# Altium integrated library Analog Devices Operational Amplifiers.IntLib: 2102 symbols (part 50 of 70)
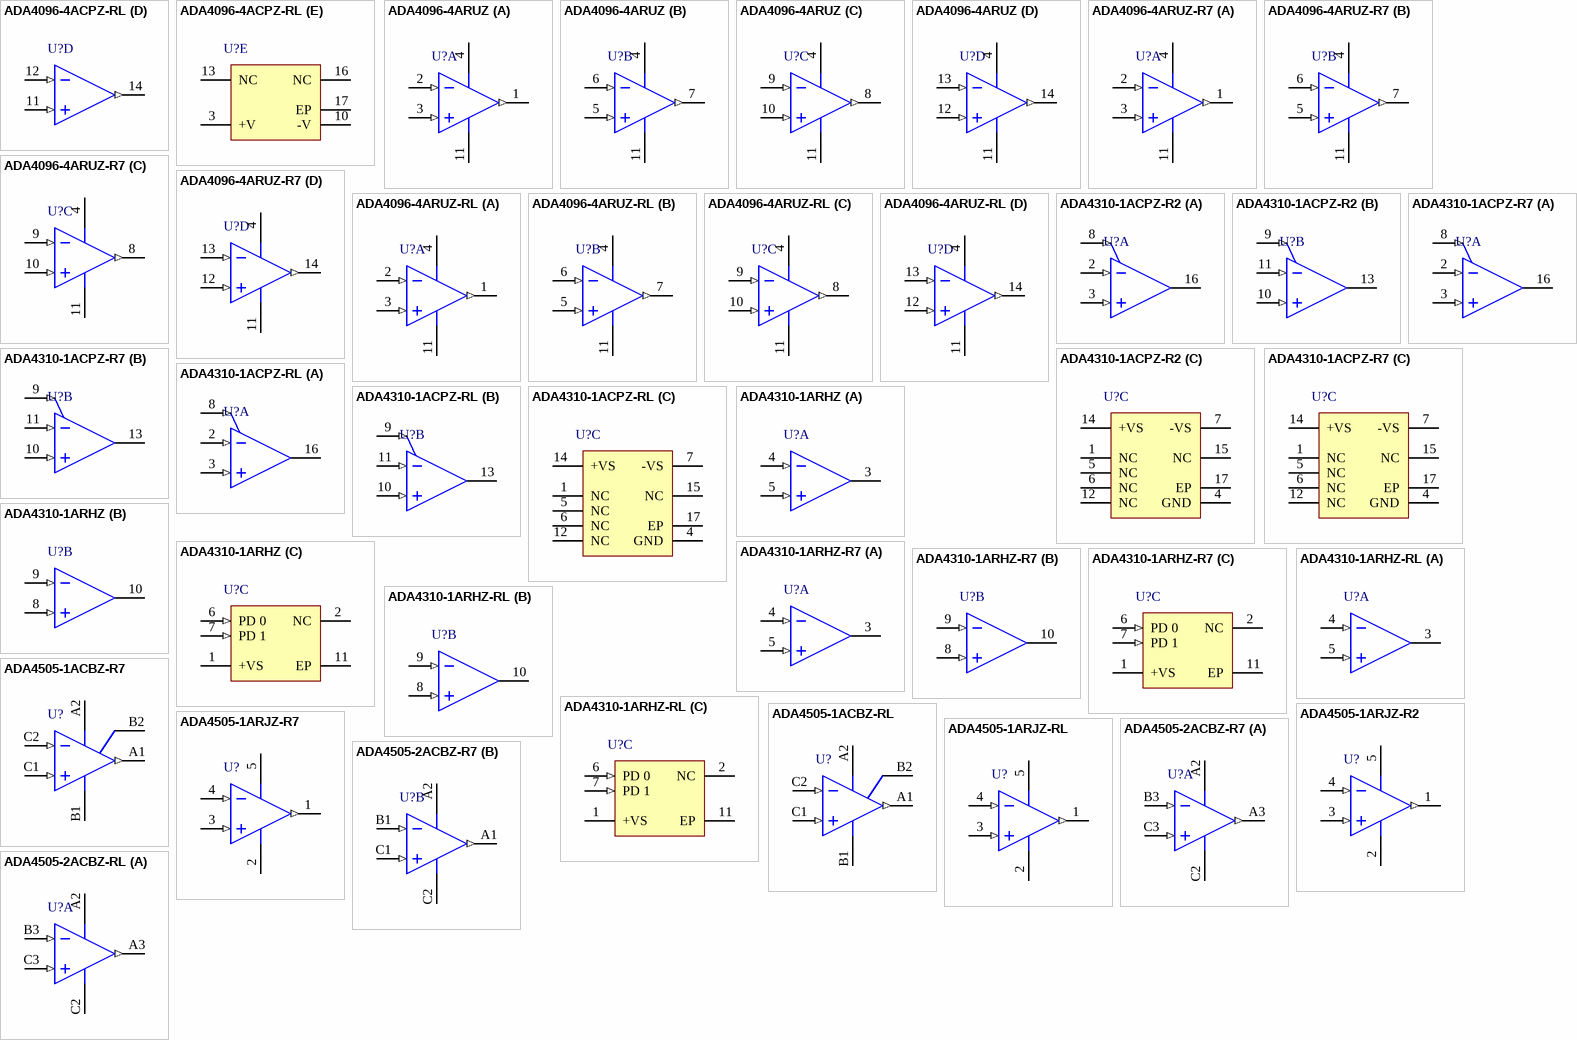
[diagram p163: symbols ADA4096-4ACPZ-RL to ADA4505-2ACBZ-RL]

## ADA4505-1ARJZ-R2
designator U?
Single Channel Rail-to-Rail Operational Amplifier, 50 KHz BW, 6 mV/us SR, Industrial, 5-pin SOT23 (RJ-5), Reel; Generic Part Number: ADA4505-1; Manufacturer: Analog Devices; PartNumber: ADA4505-1ARJZ-R2; Amplifiers Per Package: 1; Input Bias Current: 500fA; Input Offset Voltage: 500uV; Iq/Amp: 9uA; Slew Rate: 6mV/us; Small Signal Bandwidth: 50KHz; V Span Max: 5V; V Span Min: 1.8V; DatasheetVersion: Rev. D; PackageVersion: 121608-A; PackageReference: RJ-5; PackageDescription: 5-Pin Small Outline Transistor Package, Body 2.9 x 1.6 mm, Pitch 0.95 mm; Supplier 1: Digi-Key; Supplier Part Number 1: ADA4505-1ARJZ-R2TR-ND; Supplier 2: Digi-Key; Supplier Part Number 2: ADA4505-1ARJZ-R2CT-ND; Supplier 3: Digi-Key; Supplier Part Number 3: ADA4505-1ARJZ-R2DKR-ND; Supplier 4: Newark; Supplier Part Number 4: 33R2223; Supplier 5: Newark; Supplier Part Number 5: 26R2393; Mounting Technology: Surface Mount; Code_JEDEC: MO-178-AA; ComponentLink1Description: Manufacturer URL; ComponentLink1URL: http://www.analog.com/en/index.html; ComponentLink2Description: Datasheet; ComponentLink2URL: http://www.analog.com/static/imported-files/data_sheets/ADA4505-1_4505-2_4505-4.pdf; ComponentLink3Description: Package Specification; ComponentLink3URL: http://www.analog.com/static/imported-files/packages/PKG_PDF/SOT-23(RJ)/RJ_5.pdf
footprint ADI-RJ-5_N (SOT-23, 5-Leads, Body 2.9x1.6mm, Pitch 0.95mm, IPC Medium Density)
footprint ADI-RJ-5_L (SOT-23, 5-Leads, Body 2.9x1.6mm, Pitch 0.95mm, IPC High Density)
footprint ADI-RJ-5_M (SOT-23, 5-Leads, Body 2.9x1.6mm, Pitch 0.95mm, IPC Low Density)
pins: 1 OUT (out), 2 -V (power), 3 +IN (in), 4 -IN (in), 5 +V (power)

## ADA4505-1ARJZ-R7
designator U?
Single Channel Rail-to-Rail Operational Amplifier, 50 KHz BW, 6 mV/us SR, Industrial, 5-pin SOT23 (RJ-5), Reel; Generic Part Number: ADA4505-1; Manufacturer: Analog Devices; PartNumber: ADA4505-1ARJZ-R7; Amplifiers Per Package: 1; Input Bias Current: 500fA; Input Offset Voltage: 500uV; Iq/Amp: 9uA; Slew Rate: 6mV/us; Small Signal Bandwidth: 50KHz; V Span Max: 5V; V Span Min: 1.8V; DatasheetVersion: Rev. D; PackageVersion: 121608-A; PackageReference: RJ-5; PackageDescription: 5-Pin Small Outline Transistor Package, Body 2.9 x 1.6 mm, Pitch 0.95 mm; Supplier 1: Digi-Key; Supplier Part Number 1: ADA4505-1ARJZ-R7-ND; Supplier 2: Farnell; Supplier Part Number 2: 1827377RL; Supplier 3: Farnell; Supplier Part Number 3: 1827377; Supplier 4: Newark; Supplier Part Number 4: 80R8147; Supplier 5: Newark; Supplier Part Number 5: 26R2394; Mounting Technology: Surface Mount; Code_JEDEC: MO-178-AA; ComponentLink1Description: Manufacturer URL; ComponentLink1URL: http://www.analog.com/en/index.html; ComponentLink2Description: Datasheet; ComponentLink2URL: http://www.analog.com/static/imported-files/data_sheets/ADA4505-1_4505-2_4505-4.pdf; ComponentLink3Description: Package Specification; ComponentLink3URL: http://www.analog.com/static/imported-files/packages/PKG_PDF/SOT-23(RJ)/RJ_5.pdf
footprint ADI-RJ-5_N (SOT-23, 5-Leads, Body 2.9x1.6mm, Pitch 0.95mm, IPC Medium Density)
footprint ADI-RJ-5_L (SOT-23, 5-Leads, Body 2.9x1.6mm, Pitch 0.95mm, IPC High Density)
footprint ADI-RJ-5_M (SOT-23, 5-Leads, Body 2.9x1.6mm, Pitch 0.95mm, IPC Low Density)
pins: 1 OUT (out), 2 -V (power), 3 +IN (in), 4 -IN (in), 5 +V (power)

## ADA4505-1ARJZ-RL
designator U?
Single Channel Rail-to-Rail Operational Amplifier, 50 KHz BW, 6 mV/us SR, Industrial, 5-pin SOT23 (RJ-5), Reel; Generic Part Number: ADA4505-1; Manufacturer: Analog Devices; PartNumber: ADA4505-1ARJZ-RL; Amplifiers Per Package: 1; Input Bias Current: 500fA; Input Offset Voltage: 500uV; Iq/Amp: 9uA; Slew Rate: 6mV/us; Small Signal Bandwidth: 50KHz; V Span Max: 5V; V Span Min: 1.8V; DatasheetVersion: Rev. D; PackageVersion: 121608-A; PackageReference: RJ-5; PackageDescription: 5-Pin Small Outline Transistor Package, Body 2.9 x 1.6 mm, Pitch 0.95 mm; Supplier 1: Digi-Key; Supplier Part Number 1: ADA4505-1ARJZ-RL-ND; Supplier 2: Newark; Supplier Part Number 2: 26R2392; Mounting Technology: Surface Mount; Code_JEDEC: MO-178-AA; ComponentLink1Description: Manufacturer URL; ComponentLink1URL: http://www.analog.com/en/index.html; ComponentLink2Description: Datasheet; ComponentLink2URL: http://www.analog.com/static/imported-files/data_sheets/ADA4505-1_4505-2_4505-4.pdf; ComponentLink3Description: Package Specification; ComponentLink3URL: http://www.analog.com/static/imported-files/packages/PKG_PDF/SOT-23(RJ)/RJ_5.pdf
footprint ADI-RJ-5_N (SOT-23, 5-Leads, Body 2.9x1.6mm, Pitch 0.95mm, IPC Medium Density)
footprint ADI-RJ-5_L (SOT-23, 5-Leads, Body 2.9x1.6mm, Pitch 0.95mm, IPC High Density)
footprint ADI-RJ-5_M (SOT-23, 5-Leads, Body 2.9x1.6mm, Pitch 0.95mm, IPC Low Density)
pins: 1 OUT (out), 2 -V (power), 3 +IN (in), 4 -IN (in), 5 +V (power)

## ADA4505-2ACBZ-R7
designator U?
Double Channel Rail-to-Rail Operational Amplifier, 50 KHz BW, 6 mV/us SR, Industrial, 8-pin BGA (CB-8-2), Reel; Generic Part Number: ADA4505-2; Manufacturer: Analog Devices; PartNumber: ADA4505-2ACBZ-R7; Amplifiers Per Package: 2; Input Bias Current: 500fA; Input Offset Voltage: 500uV; Iq/Amp: 7uA; Slew Rate: 6mV/us; Small Signal Bandwidth: 50KHz; V Span Max: 5V; V Span Min: 1.8V; DatasheetVersion: Rev. D; PackageVersion: 011008-B; PackageReference: CB-8-2; PackageDescription: 8-Ball Wafer Level Chip Scale Package, Body 1.42 x 1.42 mm, Pitch 0.5 mm; Supplier 1: Digi-Key; Supplier Part Number 1: ADA4505-2ACBZ-R7TR-ND; Supplier 2: Digi-Key; Supplier Part Number 2: ADA4505-2ACBZ-R7CT-ND; Supplier 3: Digi-Key; Supplier Part Number 3: ADA4505-2ACBZ-R7DKR-ND; Supplier 4: Newark; Supplier Part Number 4: 19P8168; Mounting Technology: Surface Mount; ComponentLink1Description: Manufacturer URL; ComponentLink1URL: http://www.analog.com/en/index.html; ComponentLink2Description: Datasheet; ComponentLink2URL: http://www.analog.com/static/imported-files/data_sheets/ADA4505-1_4505-2_4505-4.pdf; ComponentLink3Description: Package Specification; ComponentLink3URL: http://www.analog.com/static/imported-files/packages/PKG_PDF/WLCSP(CB)/CB_8_2.pdf; ComponentLink4Description: Reference Circuit; ComponentLink4URL: http://www.analog.com/en/all-operational-amplifiers-op-amps/operational-amplifiers-op-amps/ada4505-2/products/product.html#product-recommendations
footprint ADI-CB-8-2 (BGA, 8-Balls, Body 1.42x1.42mm, Pitch 0.5mm)
pins on every part: A2 +V (power), C2 -V (power)
part A pins: A3 OUT A (out), B3 -IN A (in), C3 +IN A (in)
part B pins: A1 OUT B (out), B1 -IN B (in), C1 +IN B (in)

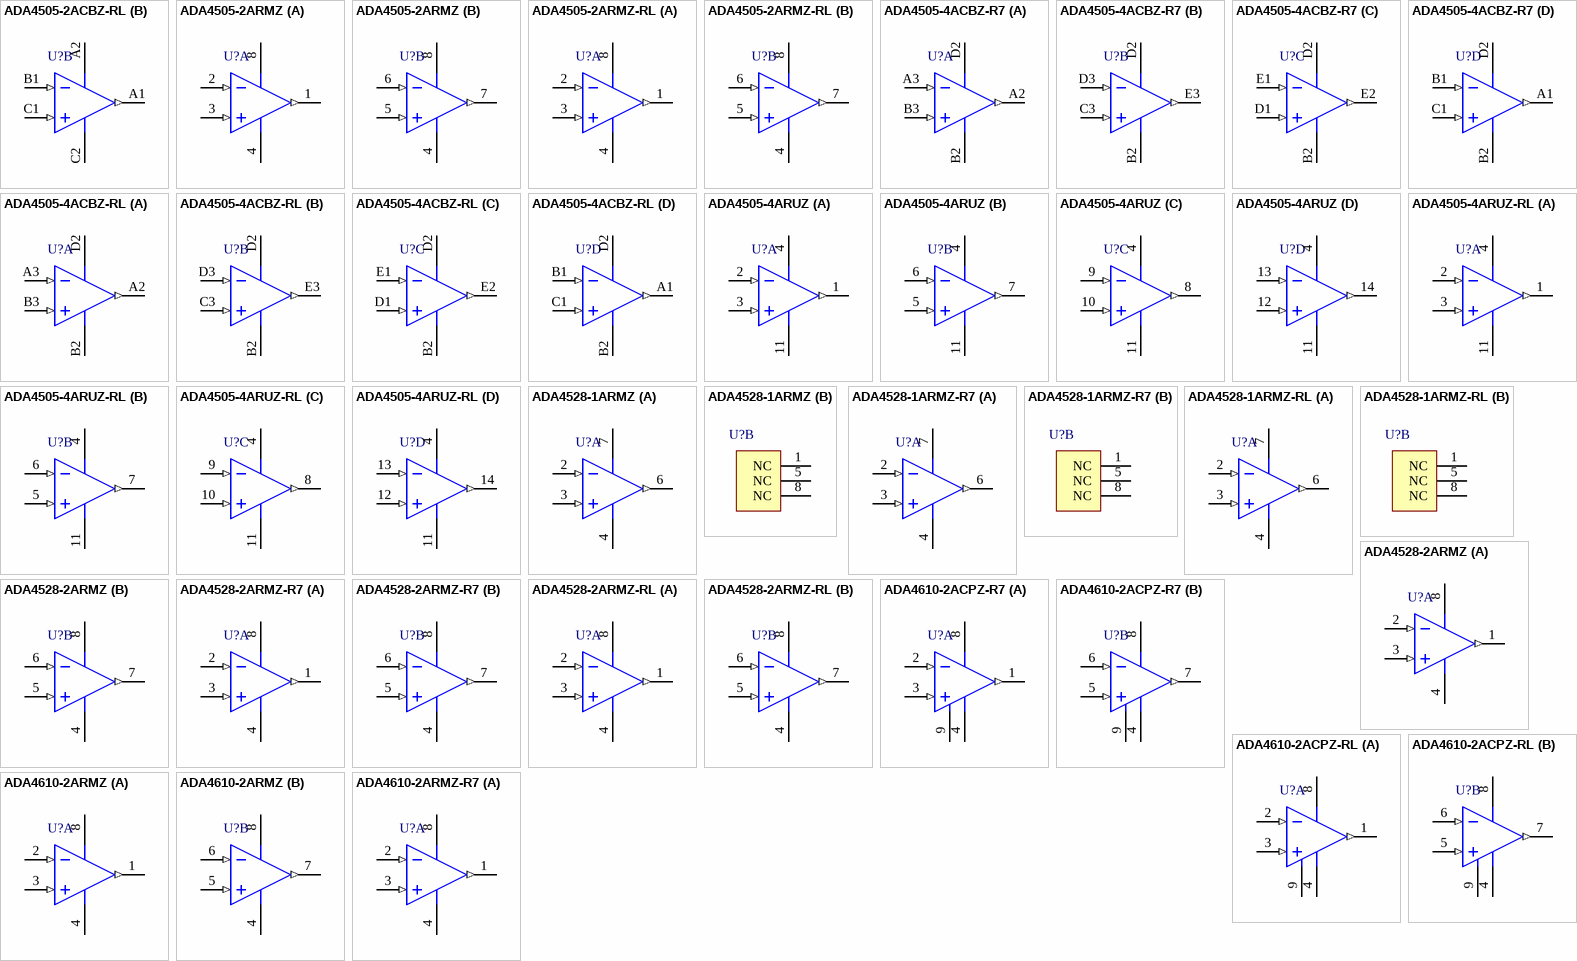
[diagram p79: symbols ADA4505-2ACBZ-RL to ADA4610-2ARMZ-R7]

## ADA4505-2ACBZ-RL
designator U?
Double Channel Rail-to-Rail Operational Amplifier, 50 KHz BW, 6 mV/us SR, Industrial, 8-pin BGA (CB-8-2), Reel; Generic Part Number: ADA4505-2; Manufacturer: Analog Devices; PartNumber: ADA4505-2ACBZ-RL; Amplifiers Per Package: 2; Input Bias Current: 500fA; Input Offset Voltage: 500uV; Iq/Amp: 7uA; Slew Rate: 6mV/us; Small Signal Bandwidth: 50KHz; V Span Max: 5V; V Span Min: 1.8V; DatasheetVersion: Rev. D; PackageVersion: 011008-B; PackageReference: CB-8-2; PackageDescription: 8-Ball Wafer Level Chip Scale Package, Body 1.42 x 1.42 mm, Pitch 0.5 mm; Supplier 1: Digi-Key; Supplier Part Number 1: ADA4505-2ACBZ-RL-ND; Mounting Technology: Surface Mount; ComponentLink1Description: Manufacturer URL; ComponentLink1URL: http://www.analog.com/en/index.html; ComponentLink2Description: Datasheet; ComponentLink2URL: http://www.analog.com/static/imported-files/data_sheets/ADA4505-1_4505-2_4505-4.pdf; ComponentLink3Description: Package Specification; ComponentLink3URL: http://www.analog.com/static/imported-files/packages/PKG_PDF/WLCSP(CB)/CB_8_2.pdf; ComponentLink4Description: Reference Circuit; ComponentLink4URL: http://www.analog.com/en/all-operational-amplifiers-op-amps/operational-amplifiers-op-amps/ada4505-2/products/product.html#product-recommendations
footprint ADI-CB-8-2 (BGA, 8-Balls, Body 1.42x1.42mm, Pitch 0.5mm)
pins on every part: A2 +V (power), C2 -V (power)
part A pins: A3 OUT A (out), B3 -IN A (in), C3 +IN A (in)
part B pins: A1 OUT B (out), B1 -IN B (in), C1 +IN B (in)

## ADA4505-2ARMZ
designator U?
Double Channel Rail-to-Rail Operational Amplifier, 50 KHz BW, 6 mV/us SR, Industrial, 8-pin SOP (RM-8), Tube; Generic Part Number: ADA4505-2; Manufacturer: Analog Devices; PartNumber: ADA4505-2ARMZ; Amplifiers Per Package: 2; Input Bias Current: 500fA; Input Offset Voltage: 500uV; Iq/Amp: 7uA; Slew Rate: 6mV/us; Small Signal Bandwidth: 50KHz; V Span Max: 5V; V Span Min: 1.8V; DatasheetVersion: Rev. D; PackageReference: RM-8; PackageDescription: 8-Pin Mini Small Outline Package, Body 3 x 3 mm, Pitch 0.65 mm; Supplier 1: Digi-Key; Supplier Part Number 1: ADA4505-2ARMZ-ND; Supplier 2: Newark; Supplier Part Number 2: 19P8169; Mounting Technology: Surface Mount; Code_JEDEC: MO-187-AA; ComponentLink1Description: Manufacturer URL; ComponentLink1URL: http://www.analog.com/en/index.html; ComponentLink2Description: Datasheet; ComponentLink2URL: http://www.analog.com/static/imported-files/data_sheets/ADA4505-1_4505-2_4505-4.pdf; ComponentLink3Description: Package Specification; ComponentLink3URL: http://www.analog.com/static/imported-files/packages/PKG_PDF/MSOP%28RM%29/RM_8.pdf; ComponentLink4Description: Reference Circuit; ComponentLink4URL: http://www.analog.com/en/all-operational-amplifiers-op-amps/operational-amplifiers-op-amps/ada4505-2/products/product.html#product-recommendations
footprint ADI-RM-8_N (SOP, 8-Leads, Body 3x3mm, Pitch 0.65mm, IPC Medium Density)
footprint ADI-RM-8_L (SOP, 8-Leads, Body 3x3mm, Pitch 0.65mm, IPC High Density)
footprint ADI-RM-8_M (SOP, 8-Leads, Body 3x3mm, Pitch 0.65mm, IPC Low Density)
pins on every part: 4 -V (power), 8 +V (power)
part A pins: 1 OUT A (out), 2 -IN A (in), 3 +IN A (in)
part B pins: 5 +IN B (in), 6 -IN B (in), 7 OUT B (out)

## ADA4505-2ARMZ-RL
designator U?
Double Channel Rail-to-Rail Operational Amplifier, 50 KHz BW, 6 mV/us SR, Industrial, 8-pin SOP (RM-8), Reel; Generic Part Number: ADA4505-2; Manufacturer: Analog Devices; PartNumber: ADA4505-2ARMZ-RL; Amplifiers Per Package: 2; Input Bias Current: 500fA; Input Offset Voltage: 500uV; Iq/Amp: 7uA; Slew Rate: 6mV/us; Small Signal Bandwidth: 50KHz; V Span Max: 5V; V Span Min: 1.8V; DatasheetVersion: Rev. D; PackageReference: RM-8; PackageDescription: 8-Pin Mini Small Outline Package, Body 3 x 3 mm, Pitch 0.65 mm; Supplier 1: Digi-Key; Supplier Part Number 1: ADA4505-2ARMZ-RLTR-ND; Supplier 2: Digi-Key; Supplier Part Number 2: ADA4505-2ARMZ-RLCT-ND; Supplier 3: Digi-Key; Supplier Part Number 3: ADA4505-2ARMZ-RLDKR-ND; Supplier 4: Newark; Supplier Part Number 4: 07P8862; Mounting Technology: Surface Mount; Code_JEDEC: MO-187-AA; ComponentLink1Description: Manufacturer URL; ComponentLink1URL: http://www.analog.com/en/index.html; ComponentLink2Description: Datasheet; ComponentLink2URL: http://www.analog.com/static/imported-files/data_sheets/ADA4505-1_4505-2_4505-4.pdf; ComponentLink3Description: Package Specification; ComponentLink3URL: http://www.analog.com/static/imported-files/packages/PKG_PDF/MSOP%28RM%29/RM_8.pdf; ComponentLink4Description: Reference Circuit; ComponentLink4URL: http://www.analog.com/en/all-operational-amplifiers-op-amps/operational-amplifiers-op-amps/ada4505-2/products/product.html#product-recommendations
footprint ADI-RM-8_N (SOP, 8-Leads, Body 3x3mm, Pitch 0.65mm, IPC Medium Density)
footprint ADI-RM-8_L (SOP, 8-Leads, Body 3x3mm, Pitch 0.65mm, IPC High Density)
footprint ADI-RM-8_M (SOP, 8-Leads, Body 3x3mm, Pitch 0.65mm, IPC Low Density)
pins on every part: 4 -V (power), 8 +V (power)
part A pins: 1 OUT A (out), 2 -IN A (in), 3 +IN A (in)
part B pins: 5 +IN B (in), 6 -IN B (in), 7 OUT B (out)

## ADA4505-4ACBZ-R7
designator U?
Quad Channel Rail-to-Rail Operational Amplifier, 50 KHz BW, 6 mV/us SR, Industrial, 14-pin BGA (CB-14-1), Reel; Generic Part Number: ADA4505-4; Manufacturer: Analog Devices; PartNumber: ADA4505-4ACBZ-R7; Amplifiers Per Package: 4; Input Bias Current: 500fA; Input Offset Voltage: 500uV; Iq/Amp: 7uA; Slew Rate: 6mV/us; Small Signal Bandwidth: 50KHz; V Span Max: 5V; V Span Min: 1.8V; DatasheetVersion: Rev. D; PackageVersion: 061208-A; PackageReference: CB-14-1; PackageDescription: 14-Ball Wafer Level Chip Scale Package, Body 2.96 x 1.46 mm, Pitch 0.5 mm; Supplier 1: Digi-Key; Supplier Part Number 1: ADA4505-4ACBZ-R7TR-ND; Supplier 2: Digi-Key; Supplier Part Number 2: ADA4505-4ACBZ-R7CT-ND; Supplier 3: Digi-Key; Supplier Part Number 3: ADA4505-4ACBZ-R7DKR-ND; Mounting Technology: Surface Mount; ComponentLink1Description: Manufacturer URL; ComponentLink1URL: http://www.analog.com/en/index.html; ComponentLink2Description: Datasheet; ComponentLink2URL: http://www.analog.com/static/imported-files/data_sheets/ADA4505-1_4505-2_4505-4.pdf; ComponentLink3Description: Package Specification; ComponentLink3URL: http://www.analog.com/static/imported-files/packages/PKG_PDF/WLCSP(CB)/CB_14_1.pdf
footprint ADI-CB-14-1 (BGA, 14-Balls, Body 2.96x1.46mm, Pitch 0.5mm)
pins on every part: B2 -V (power), D2 +V (power)
part A pins: A2 OUT A (out), A3 -IN A (in), B3 +IN A (in)
part B pins: C3 +IN B (in), D3 -IN B (in), E3 OUT B (out)
part C pins: D1 +IN C (in), E1 -IN C (in), E2 OUT C (out)
part D pins: A1 OUT D (out), B1 -IN D (in), C1 +IN D (in)

## ADA4505-4ACBZ-RL
designator U?
Quad Channel Rail-to-Rail Operational Amplifier, 50 KHz BW, 6 mV/us SR, Industrial, 14-pin BGA (CB-14-1), Reel; Generic Part Number: ADA4505-4; Manufacturer: Analog Devices; PartNumber: ADA4505-4ACBZ-RL; Amplifiers Per Package: 4; Input Bias Current: 500fA; Input Offset Voltage: 500uV; Iq/Amp: 7uA; Slew Rate: 6mV/us; Small Signal Bandwidth: 50KHz; V Span Max: 5V; V Span Min: 1.8V; DatasheetVersion: Rev. D; PackageVersion: 061208-A; PackageReference: CB-14-1; PackageDescription: 14-Ball Wafer Level Chip Scale Package, Body 2.96 x 1.46 mm, Pitch 0.5 mm; Supplier 1: Digi-Key; Supplier Part Number 1: ADA4505-4ACBZ-RL-ND; Mounting Technology: Surface Mount; ComponentLink1Description: Manufacturer URL; ComponentLink1URL: http://www.analog.com/en/index.html; ComponentLink2Description: Datasheet; ComponentLink2URL: http://www.analog.com/static/imported-files/data_sheets/ADA4505-1_4505-2_4505-4.pdf; ComponentLink3Description: Package Specification; ComponentLink3URL: http://www.analog.com/static/imported-files/packages/PKG_PDF/WLCSP(CB)/CB_14_1.pdf
footprint ADI-CB-14-1 (BGA, 14-Balls, Body 2.96x1.46mm, Pitch 0.5mm)
pins on every part: B2 -V (power), D2 +V (power)
part A pins: A2 OUT A (out), A3 -IN A (in), B3 +IN A (in)
part B pins: C3 +IN B (in), D3 -IN B (in), E3 OUT B (out)
part C pins: D1 +IN C (in), E1 -IN C (in), E2 OUT C (out)
part D pins: A1 OUT D (out), B1 -IN D (in), C1 +IN D (in)

## ADA4505-4ARUZ
designator U?
Quad Channel Rail-to-Rail Operational Amplifier, 50 KHz BW, 6 mV/us SR, Industrial, 14-pin SOP (RU-14), Tube; Generic Part Number: ADA4505-4; Manufacturer: Analog Devices; PartNumber: ADA4505-4ARUZ; Amplifiers Per Package: 4; Input Bias Current: 500fA; Input Offset Voltage: 500uV; Iq/Amp: 7uA; Slew Rate: 6mV/us; Small Signal Bandwidth: 50KHz; V Span Max: 5V; V Span Min: 1.8V; DatasheetVersion: Rev. D; PackageReference: RU-14; PackageDescription: 14-Pin Thin Shrink Small Outline Package, Body 5 x 4.4 mm, Pitch 0.65 mm; Supplier 1: Digi-Key; Supplier Part Number 1: ADA4505-4ARUZ-ND; Supplier 2: Newark; Supplier Part Number 2: 19P8170; Mounting Technology: Surface Mount; Code_JEDEC: MO-153AB-1; ComponentLink1Description: Manufacturer URL; ComponentLink1URL: http://www.analog.com/en/index.html; ComponentLink2Description: Datasheet; ComponentLink2URL: http://www.analog.com/static/imported-files/data_sheets/ADA4505-1_4505-2_4505-4.pdf; ComponentLink3Description: Package Specification; ComponentLink3URL: http://www.analog.com/static/imported-files/packages/36057385283879153717235186773RU14.pdf
footprint ADI-RU-14_N (SOP, 14-Leads, Body 5x4.4mm, Pitch 0.65mm, IPC Medium Density)
footprint ADI-RU-14_L (SOP, 14-Leads, Body 5x4.4mm, Pitch 0.65mm, IPC High Density)
footprint ADI-RU-14_M (SOP, 14-Leads, Body 5x4.4mm, Pitch 0.65mm, IPC Low Density)
pins on every part: 4 +V (power), 11 -V (power)
part A pins: 1 OUT A (out), 2 -IN A (in), 3 +IN A (in)
part B pins: 5 +IN B (in), 6 -IN B (in), 7 OUT B (out)
part C pins: 8 OUT C (out), 9 -IN C (in), 10 +IN C (in)
part D pins: 12 +IN D (in), 13 -IN D (in), 14 OUT D (out)

## ADA4505-4ARUZ-RL
designator U?
Quad Channel Rail-to-Rail Operational Amplifier, 50 KHz BW, 6 mV/us SR, Industrial, 14-pin SOP (RU-14), Reel; Generic Part Number: ADA4505-4; Manufacturer: Analog Devices; PartNumber: ADA4505-4ARUZ-RL; Amplifiers Per Package: 4; Input Bias Current: 500fA; Input Offset Voltage: 500uV; Iq/Amp: 7uA; Slew Rate: 6mV/us; Small Signal Bandwidth: 50KHz; V Span Max: 5V; V Span Min: 1.8V; DatasheetVersion: Rev. D; PackageReference: RU-14; PackageDescription: 14-Pin Thin Shrink Small Outline Package, Body 5 x 4.4 mm, Pitch 0.65 mm; Supplier 1: Digi-Key; Supplier Part Number 1: ADA4505-4ARUZ-RL-ND; Mounting Technology: Surface Mount; Code_JEDEC: MO-153AB-1; ComponentLink1Description: Manufacturer URL; ComponentLink1URL: http://www.analog.com/en/index.html; ComponentLink2Description: Datasheet; ComponentLink2URL: http://www.analog.com/static/imported-files/data_sheets/ADA4505-1_4505-2_4505-4.pdf; ComponentLink3Description: Package Specification; ComponentLink3URL: http://www.analog.com/static/imported-files/packages/36057385283879153717235186773RU14.pdf
footprint ADI-RU-14_N (SOP, 14-Leads, Body 5x4.4mm, Pitch 0.65mm, IPC Medium Density)
footprint ADI-RU-14_L (SOP, 14-Leads, Body 5x4.4mm, Pitch 0.65mm, IPC High Density)
footprint ADI-RU-14_M (SOP, 14-Leads, Body 5x4.4mm, Pitch 0.65mm, IPC Low Density)
pins on every part: 4 +V (power), 11 -V (power)
part A pins: 1 OUT A (out), 2 -IN A (in), 3 +IN A (in)
part B pins: 5 +IN B (in), 6 -IN B (in), 7 OUT B (out)
part C pins: 8 OUT C (out), 9 -IN C (in), 10 +IN C (in)
part D pins: 12 +IN D (in), 13 -IN D (in), 14 OUT D (out)

## ADA4528-1ARMZ
designator U?
Single Channel RRIO Operational Amplifier, 6.5 MHz BW, 500 mV/us SR, Industrial, 8-pin SOP (RM-8), Tube; Generic Part Number: ADA4528-1; Manufacturer: Analog Devices; PartNumber: ADA4528-1ARMZ; Amplifiers Per Package: 1; Input Bias Current: 90pA; Input Offset Voltage: 300nV; Iq/Amp: 1.4mA; Small Signal Bandwidth: 6.5MHz; V Span Max: 5.5V; V Span Min: 2.2V; DatasheetVersion: Rev. C; PackageReference: RM-8; PackageDescription: 8-Pin Mini Small Outline Package, Body 3 x 3 mm, Pitch 0.65 mm; Supplier 1: Digi-Key; Supplier Part Number 1: ADA4528-1ARMZ-ND; Supplier 2: Farnell; Supplier Part Number 2: 1897114; Supplier 3: Farnell; Supplier Part Number 3: 2119010; Supplier 4: Newark; Supplier Part Number 4: 31T9234; Packing: Tube; Slew Rate: 500mV/us; Mounting Technology: Surface Mount; Code_JEDEC: MO-187-AA; ComponentLink1Description: Manufacturer URL; ComponentLink1URL: http://www.analog.com/en/index.html; ComponentLink2Description: Datasheet; ComponentLink2URL: http://www.analog.com/static/imported-files/data_sheets/ADA4528-1_4528-2.pdf; ComponentLink3Description: Package Specification; ComponentLink3URL: http://www.analog.com/static/imported-files/packages/PKG_PDF/MSOP%28RM%29/RM_8.pdf; ComponentLink4Description: Reference Circuit; ComponentLink4URL: http://search.analog.com/search/ProductSearch.aspx?query=ada4528-1&amp;locale=en#product-recommendations
footprint ADI-RM-8_N (SOP, 8-Leads, Body 3x3mm, Pitch 0.65mm, IPC Medium Density)
footprint ADI-RM-8_L (SOP, 8-Leads, Body 3x3mm, Pitch 0.65mm, IPC High Density)
footprint ADI-RM-8_M (SOP, 8-Leads, Body 3x3mm, Pitch 0.65mm, IPC Low Density)
part A pins: 2 -IN (in), 3 +IN (in), 4 -V (power), 6 OUT (out), 7 +V (power)
part B pins: 1 NC, 5 NC, 8 NC

## ADA4528-1ARMZ-R7
designator U?
Single Channel RRIO Operational Amplifier, 6.5 MHz BW, 500 mV/us SR, Industrial, 8-pin SOP (RM-8), Reel; Generic Part Number: ADA4528-1; Manufacturer: Analog Devices; PartNumber: ADA4528-1ARMZ-R7; Amplifiers Per Package: 1; Input Bias Current: 90pA; Input Offset Voltage: 300nV; Iq/Amp: 1.4mA; Small Signal Bandwidth: 6.5MHz; V Span Max: 5.5V; V Span Min: 2.2V; DatasheetVersion: Rev. C; PackageReference: RM-8; PackageDescription: 8-Pin Mini Small Outline Package, Body 3 x 3 mm, Pitch 0.65 mm; Supplier 1: Digi-Key; Supplier Part Number 1: ADA4528-1ARMZ-R7TR-ND; Supplier 2: Digi-Key; Supplier Part Number 2: ADA4528-1ARMZ-R7CT-ND; Supplier 3: Digi-Key; Supplier Part Number 3: ADA4528-1ARMZ-R7DKR-ND; Packing: Reel; Slew Rate: 500mV/us; Mounting Technology: Surface Mount; Code_JEDEC: MO-187-AA; ComponentLink1Description: Manufacturer URL; ComponentLink1URL: http://www.analog.com/en/index.html; ComponentLink2Description: Datasheet; ComponentLink2URL: http://www.analog.com/static/imported-files/data_sheets/ADA4528-1_4528-2.pdf; ComponentLink3Description: Package Specification; ComponentLink3URL: http://www.analog.com/static/imported-files/packages/PKG_PDF/MSOP%28RM%29/RM_8.pdf; ComponentLink4Description: Reference Circuit; ComponentLink4URL: http://search.analog.com/search/ProductSearch.aspx?query=ada4528-1&amp;locale=en#product-recommendations
footprint ADI-RM-8_N (SOP, 8-Leads, Body 3x3mm, Pitch 0.65mm, IPC Medium Density)
footprint ADI-RM-8_L (SOP, 8-Leads, Body 3x3mm, Pitch 0.65mm, IPC High Density)
footprint ADI-RM-8_M (SOP, 8-Leads, Body 3x3mm, Pitch 0.65mm, IPC Low Density)
part A pins: 2 -IN (in), 3 +IN (in), 4 -V (power), 6 OUT (out), 7 +V (power)
part B pins: 1 NC, 5 NC, 8 NC

## ADA4528-1ARMZ-RL
designator U?
Single Channel RRIO Operational Amplifier, 6.5 MHz BW, 500 mV/us SR, Industrial, 8-pin SOP (RM-8), Reel; Generic Part Number: ADA4528-1; Manufacturer: Analog Devices; PartNumber: ADA4528-1ARMZ-RL; Amplifiers Per Package: 1; Input Bias Current: 90pA; Input Offset Voltage: 300nV; Iq/Amp: 1.4mA; Small Signal Bandwidth: 6.5MHz; V Span Max: 5.5V; V Span Min: 2.2V; DatasheetVersion: Rev. C; PackageReference: RM-8; PackageDescription: 8-Pin Mini Small Outline Package, Body 3 x 3 mm, Pitch 0.65 mm; Supplier 1: Digi-Key; Supplier Part Number 1: ADA4528-1ARMZ-RL-ND; Supplier 2: Newark; Supplier Part Number 2: 31T9235; Packing: Reel; Slew Rate: 500mV/us; Mounting Technology: Surface Mount; Code_JEDEC: MO-187-AA; ComponentLink1Description: Manufacturer URL; ComponentLink1URL: http://www.analog.com/en/index.html; ComponentLink2Description: Datasheet; ComponentLink2URL: http://www.analog.com/static/imported-files/data_sheets/ADA4528-1_4528-2.pdf; ComponentLink3Description: Package Specification; ComponentLink3URL: http://www.analog.com/static/imported-files/packages/PKG_PDF/MSOP%28RM%29/RM_8.pdf; ComponentLink4Description: Reference Circuit; ComponentLink4URL: http://search.analog.com/search/ProductSearch.aspx?query=ada4528-1&amp;locale=en#product-recommendations
footprint ADI-RM-8_N (SOP, 8-Leads, Body 3x3mm, Pitch 0.65mm, IPC Medium Density)
footprint ADI-RM-8_L (SOP, 8-Leads, Body 3x3mm, Pitch 0.65mm, IPC High Density)
footprint ADI-RM-8_M (SOP, 8-Leads, Body 3x3mm, Pitch 0.65mm, IPC Low Density)
part A pins: 2 -IN (in), 3 +IN (in), 4 -V (power), 6 OUT (out), 7 +V (power)
part B pins: 1 NC, 5 NC, 8 NC

## ADA4528-2ARMZ
designator U?
Double Channel RRIO Operational Amplifier, 3.4 MHz BW, 500 mV/us SR, Industrial, 8-pin SOP (RM-8), Tube; Generic Part Number: ADA4528-2; Manufacturer: Analog Devices; PartNumber: ADA4528-2ARMZ; Amplifiers Per Package: 2; Input Bias Current: 125pA; Input Offset Voltage: 300nV; Iq/Amp: 1.5mA; Small Signal Bandwidth: 3.4MHz; V Span Max: 5.5V; V Span Min: 2.2V; DatasheetVersion: Rev. C; PackageReference: RM-8; PackageDescription: 8-Pin Mini Small Outline Package, Body 3 x 3 mm, Pitch 0.65 mm; Supplier 1: Digi-Key; Supplier Part Number 1: ADA4528-2ARMZ-ND; Supplier 2: Farnell; Supplier Part Number 2: 2213573; Supplier 3: Newark; Supplier Part Number 3: 43W5460; Supplier 4: Newark; Supplier Part Number 4: 45W6180; Packing: Tube; Slew Rate: 500mV/us; Mounting Technology: Surface Mount; Code_JEDEC: MO-187-AA; ComponentLink1Description: Manufacturer URL; ComponentLink1URL: http://www.analog.com/en/index.html; ComponentLink2Description: Datasheet; ComponentLink2URL: http://www.analog.com/static/imported-files/data_sheets/ADA4528-1_4528-2.pdf; ComponentLink3Description: Package Specification; ComponentLink3URL: http://www.analog.com/static/imported-files/packages/PKG_PDF/MSOP%28RM%29/RM_8.pdf
footprint ADI-RM-8_N (SOP, 8-Leads, Body 3x3mm, Pitch 0.65mm, IPC Medium Density)
footprint ADI-RM-8_L (SOP, 8-Leads, Body 3x3mm, Pitch 0.65mm, IPC High Density)
footprint ADI-RM-8_M (SOP, 8-Leads, Body 3x3mm, Pitch 0.65mm, IPC Low Density)
pins on every part: 4 -V (power), 8 +V (power)
part A pins: 1 OUT A (out), 2 -IN A (in), 3 +IN A (in)
part B pins: 5 +IN B (in), 6 -IN B (in), 7 OUT B (out)

## ADA4528-2ARMZ-R7
designator U?
Double Channel RRIO Operational Amplifier, 3.4 MHz BW, 500 mV/us SR, Industrial, 8-pin SOP (RM-8), Reel; Generic Part Number: ADA4528-2; Manufacturer: Analog Devices; PartNumber: ADA4528-2ARMZ-R7; Amplifiers Per Package: 2; Input Bias Current: 125pA; Input Offset Voltage: 300nV; Iq/Amp: 1.5mA; Small Signal Bandwidth: 3.4MHz; V Span Max: 5.5V; V Span Min: 2.2V; DatasheetVersion: Rev. C; PackageReference: RM-8; PackageDescription: 8-Pin Mini Small Outline Package, Body 3 x 3 mm, Pitch 0.65 mm; Supplier 1: Digi-Key; Supplier Part Number 1: ADA4528-2ARMZ-R7TR-ND; Supplier 2: Digi-Key; Supplier Part Number 2: ADA4528-2ARMZ-R7CT-ND; Supplier 3: Digi-Key; Supplier Part Number 3: ADA4528-2ARMZ-R7DKR-ND; Supplier 4: Newark; Supplier Part Number 4: 43W5462; Packing: Reel; Slew Rate: 500mV/us; Mounting Technology: Surface Mount; Code_JEDEC: MO-187-AA; ComponentLink1Description: Manufacturer URL; ComponentLink1URL: http://www.analog.com/en/index.html; ComponentLink2Description: Datasheet; ComponentLink2URL: http://www.analog.com/static/imported-files/data_sheets/ADA4528-1_4528-2.pdf; ComponentLink3Description: Package Specification; ComponentLink3URL: http://www.analog.com/static/imported-files/packages/PKG_PDF/MSOP%28RM%29/RM_8.pdf
footprint ADI-RM-8_N (SOP, 8-Leads, Body 3x3mm, Pitch 0.65mm, IPC Medium Density)
footprint ADI-RM-8_L (SOP, 8-Leads, Body 3x3mm, Pitch 0.65mm, IPC High Density)
footprint ADI-RM-8_M (SOP, 8-Leads, Body 3x3mm, Pitch 0.65mm, IPC Low Density)
pins on every part: 4 -V (power), 8 +V (power)
part A pins: 1 OUT A (out), 2 -IN A (in), 3 +IN A (in)
part B pins: 5 +IN B (in), 6 -IN B (in), 7 OUT B (out)

## ADA4528-2ARMZ-RL
designator U?
Double Channel RRIO Operational Amplifier, 3.4 MHz BW, 500 mV/us SR, Industrial, 8-pin SOP (RM-8), Reel; Generic Part Number: ADA4528-2; Manufacturer: Analog Devices; PartNumber: ADA4528-2ARMZ-RL; Amplifiers Per Package: 2; Input Bias Current: 125pA; Input Offset Voltage: 300nV; Iq/Amp: 1.5mA; Small Signal Bandwidth: 3.4MHz; V Span Max: 5.5V; V Span Min: 2.2V; DatasheetVersion: Rev. C; PackageReference: RM-8; PackageDescription: 8-Pin Mini Small Outline Package, Body 3 x 3 mm, Pitch 0.65 mm; Supplier 1: Digi-Key; Supplier Part Number 1: ADA4528-2ARMZ-RL-ND; Supplier 2: Newark; Supplier Part Number 2: 43W5461; Packing: Reel; Slew Rate: 500mV/us; Mounting Technology: Surface Mount; Code_JEDEC: MO-187-AA; ComponentLink1Description: Manufacturer URL; ComponentLink1URL: http://www.analog.com/en/index.html; ComponentLink2Description: Datasheet; ComponentLink2URL: http://www.analog.com/static/imported-files/data_sheets/ADA4528-1_4528-2.pdf; ComponentLink3Description: Package Specification; ComponentLink3URL: http://www.analog.com/static/imported-files/packages/PKG_PDF/MSOP%28RM%29/RM_8.pdf
footprint ADI-RM-8_N (SOP, 8-Leads, Body 3x3mm, Pitch 0.65mm, IPC Medium Density)
footprint ADI-RM-8_L (SOP, 8-Leads, Body 3x3mm, Pitch 0.65mm, IPC High Density)
footprint ADI-RM-8_M (SOP, 8-Leads, Body 3x3mm, Pitch 0.65mm, IPC Low Density)
pins on every part: 4 -V (power), 8 +V (power)
part A pins: 1 OUT A (out), 2 -IN A (in), 3 +IN A (in)
part B pins: 5 +IN B (in), 6 -IN B (in), 7 OUT B (out)

## ADA4610-2ACPZ-R7
designator U?
Double Channel Low Offset Voltage Drift Operational Amplifier, 10.6 MHz BW, 25 V/us SR, Industrial, 8-pin QFN (CP-8-9), Reel; Generic Part Number: ADA4610-2; Manufacturer: Analog Devices; PartNumber: ADA4610-2ACPZ-R7; Amplifiers Per Package: 2; Input Bias Current: 5pA; Input Offset Voltage: 400uV; Iq/Amp: 1.6mA; Slew Rate: 25V/us; V Span Max: 30V; V Span Min: 9V; DatasheetVersion: Rev. B; PackageVersion: 051909-A; PackageReference: CP-8-9; PackageDescription: 8-Pin Lead Frame Chip Scale Package, Body 3 x 3 mm, Pitch 0.5 mm; Supplier 1: Digi-Key; Supplier Part Number 1: ADA4610-2ACPZ-R7-ND; Supplier 2: Newark; Supplier Part Number 2: 86T6045; Packing: Reel; Small Signal Bandwidth: 10.6MHz; Mounting Technology: Surface Mount; ComponentLink1Description: Manufacturer URL; ComponentLink1URL: http://www.analog.com/en/index.html; ComponentLink2Description: Datasheet; ComponentLink2URL: http://www.analog.com/static/imported-files/data_sheets/ADA4610-2.pdf; ComponentLink3Description: Package Specification; ComponentLink3URL: http://www.analog.com/static/imported-files/packages/PKG_PDF/LFCSP(CP)/CP_8_9.pdf
footprint ADI-CP-8-9_N (QFN, 8-Leads, Body 3x3mm, Pitch 0.5mm, Thermal Pad 1.5x2.13mm, IPC Medium Density)
footprint ADI-CP-8-9_L (QFN, 8-Leads, Body 3x3mm, Pitch 0.5mm, Thermal Pad 1.5x2.13mm, IPC High Density)
footprint ADI-CP-8-9_M (QFN, 8-Leads, Body 3x3mm, Pitch 0.5mm, Thermal Pad 1.5x2.13mm, IPC Low Density)
pins on every part: 4 -V (power), 8 +V (power), 9 EP (power)
part A pins: 1 OUT A (out), 2 -IN A (in), 3 +IN A (in)
part B pins: 5 +IN B (in), 6 -IN B (in), 7 OUT B (out)

## ADA4610-2ACPZ-RL
designator U?
Double Channel Low Offset Voltage Drift Operational Amplifier, 10.6 MHz BW, 25 V/us SR, Industrial, 8-pin QFN (CP-8-9), Reel; Generic Part Number: ADA4610-2; Manufacturer: Analog Devices; PartNumber: ADA4610-2ACPZ-RL; Amplifiers Per Package: 2; Input Bias Current: 5pA; Input Offset Voltage: 400uV; Iq/Amp: 1.6mA; Slew Rate: 25V/us; V Span Max: 30V; V Span Min: 9V; DatasheetVersion: Rev. B; PackageVersion: 051909-A; PackageReference: CP-8-9; PackageDescription: 8-Pin Lead Frame Chip Scale Package, Body 3 x 3 mm, Pitch 0.5 mm; Supplier 1: Digi-Key; Supplier Part Number 1: ADA4610-2ACPZ-RL-ND; Supplier 2: Farnell; Supplier Part Number 2: 2102380; Supplier 3: Newark; Supplier Part Number 3: 86T6044; Supplier 4: Newark; Supplier Part Number 4: 92T3177; Packing: Reel; Small Signal Bandwidth: 10.6MHz; Mounting Technology: Surface Mount; ComponentLink1Description: Manufacturer URL; ComponentLink1URL: http://www.analog.com/en/index.html; ComponentLink2Description: Datasheet; ComponentLink2URL: http://www.analog.com/static/imported-files/data_sheets/ADA4610-2.pdf; ComponentLink3Description: Package Specification; ComponentLink3URL: http://www.analog.com/static/imported-files/packages/PKG_PDF/LFCSP(CP)/CP_8_9.pdf
footprint ADI-CP-8-9_N (QFN, 8-Leads, Body 3x3mm, Pitch 0.5mm, Thermal Pad 1.5x2.13mm, IPC Medium Density)
footprint ADI-CP-8-9_L (QFN, 8-Leads, Body 3x3mm, Pitch 0.5mm, Thermal Pad 1.5x2.13mm, IPC High Density)
footprint ADI-CP-8-9_M (QFN, 8-Leads, Body 3x3mm, Pitch 0.5mm, Thermal Pad 1.5x2.13mm, IPC Low Density)
pins on every part: 4 -V (power), 8 +V (power), 9 EP (power)
part A pins: 1 OUT A (out), 2 -IN A (in), 3 +IN A (in)
part B pins: 5 +IN B (in), 6 -IN B (in), 7 OUT B (out)

## ADA4610-2ARMZ
designator U?
Double Channel Low Offset Voltage Drift Operational Amplifier, 10.6 MHz BW, 25 V/us SR, Industrial, 8-pin SOP (RM-8), Tube; Generic Part Number: ADA4610-2; Manufacturer: Analog Devices; PartNumber: ADA4610-2ARMZ; Amplifiers Per Package: 2; Input Bias Current: 5pA; Input Offset Voltage: 400uV; Iq/Amp: 1.6mA; Slew Rate: 25V/us; V Span Max: 30V; V Span Min: 9V; DatasheetVersion: Rev. B; PackageReference: RM-8; PackageDescription: 8-Pin Mini Small Outline Package, Body 3 x 3 mm, Pitch 0.65 mm; Supplier 1: Digi-Key; Supplier Part Number 1: ADA4610-2ARMZ-ND; Supplier 2: Farnell; Supplier Part Number 2: 2081045; Supplier 3: Newark; Supplier Part Number 3: 86T6046; Packing: Tube; Small Signal Bandwidth: 10.6MHz; Mounting Technology: Surface Mount; Code_JEDEC: MO-187-AA; ComponentLink1Description: Manufacturer URL; ComponentLink1URL: http://www.analog.com/en/index.html; ComponentLink2Description: Datasheet; ComponentLink2URL: http://www.analog.com/static/imported-files/data_sheets/ADA4610-2.pdf; ComponentLink3Description: Package Specification; ComponentLink3URL: http://www.analog.com/static/imported-files/packages/PKG_PDF/MSOP%28RM%29/RM_8.pdf
footprint ADI-RM-8_N (SOP, 8-Leads, Body 3x3mm, Pitch 0.65mm, IPC Medium Density)
footprint ADI-RM-8_L (SOP, 8-Leads, Body 3x3mm, Pitch 0.65mm, IPC High Density)
footprint ADI-RM-8_M (SOP, 8-Leads, Body 3x3mm, Pitch 0.65mm, IPC Low Density)
pins on every part: 4 -V (power), 8 +V (power)
part A pins: 1 OUT A (out), 2 -IN A (in), 3 +IN A (in)
part B pins: 5 +IN B (in), 6 -IN B (in), 7 OUT B (out)

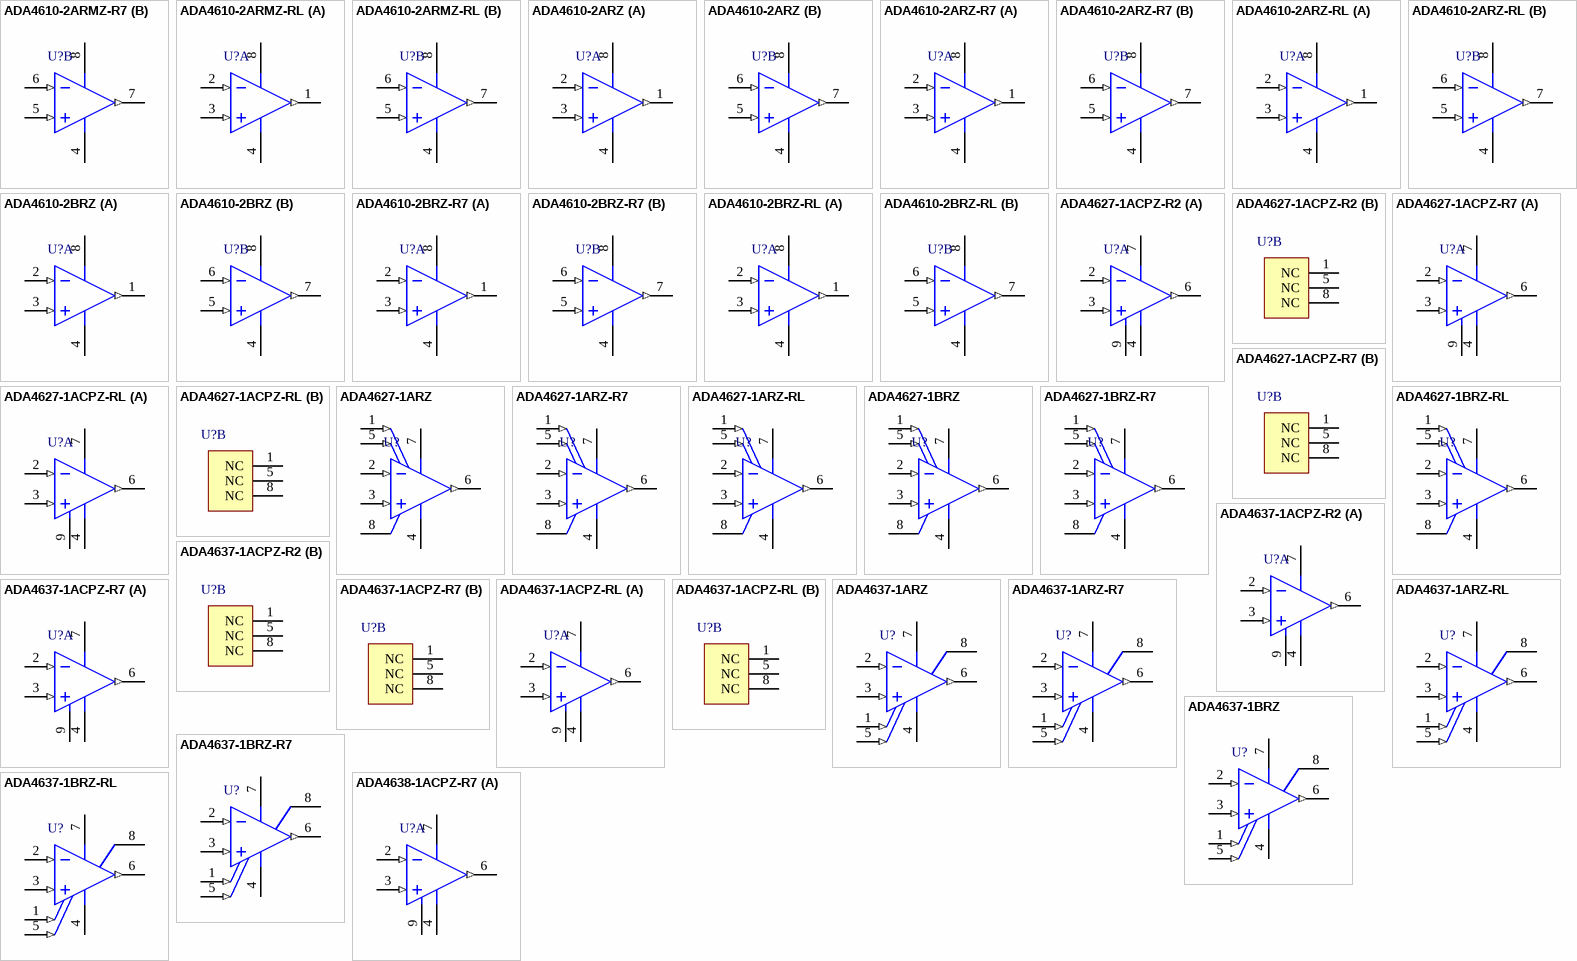
[diagram p80: symbols ADA4610-2ARMZ-R7 to ADA4638-1ACPZ-R7]

## ADA4610-2ARMZ-R7
designator U?
Double Channel Low Offset Voltage Drift Operational Amplifier, 10.6 MHz BW, 25 V/us SR, Industrial, 8-pin SOP (RM-8), Reel; Generic Part Number: ADA4610-2; Manufacturer: Analog Devices; PartNumber: ADA4610-2ARMZ-R7; Amplifiers Per Package: 2; Input Bias Current: 5pA; Input Offset Voltage: 400uV; Iq/Amp: 1.6mA; Slew Rate: 25V/us; V Span Max: 30V; V Span Min: 9V; DatasheetVersion: Rev. B; PackageReference: RM-8; PackageDescription: 8-Pin Mini Small Outline Package, Body 3 x 3 mm, Pitch 0.65 mm; Supplier 1: Digi-Key; Supplier Part Number 1: ADA4610-2ARMZ-R7-ND; Supplier 2: Newark; Supplier Part Number 2: 86T6048; Packing: Reel; Small Signal Bandwidth: 10.6MHz; Mounting Technology: Surface Mount; Code_JEDEC: MO-187-AA; ComponentLink1Description: Manufacturer URL; ComponentLink1URL: http://www.analog.com/en/index.html; ComponentLink2Description: Datasheet; ComponentLink2URL: http://www.analog.com/static/imported-files/data_sheets/ADA4610-2.pdf; ComponentLink3Description: Package Specification; ComponentLink3URL: http://www.analog.com/static/imported-files/packages/PKG_PDF/MSOP%28RM%29/RM_8.pdf
footprint ADI-RM-8_N (SOP, 8-Leads, Body 3x3mm, Pitch 0.65mm, IPC Medium Density)
footprint ADI-RM-8_L (SOP, 8-Leads, Body 3x3mm, Pitch 0.65mm, IPC High Density)
footprint ADI-RM-8_M (SOP, 8-Leads, Body 3x3mm, Pitch 0.65mm, IPC Low Density)
pins on every part: 4 -V (power), 8 +V (power)
part A pins: 1 OUT A (out), 2 -IN A (in), 3 +IN A (in)
part B pins: 5 +IN B (in), 6 -IN B (in), 7 OUT B (out)

## ADA4610-2ARMZ-RL
designator U?
Double Channel Low Offset Voltage Drift Operational Amplifier, 10.6 MHz BW, 25 V/us SR, Industrial, 8-pin SOP (RM-8), Reel; Generic Part Number: ADA4610-2; Manufacturer: Analog Devices; PartNumber: ADA4610-2ARMZ-RL; Amplifiers Per Package: 2; Input Bias Current: 5pA; Input Offset Voltage: 200uV; Iq/Amp: 1.6mA; Slew Rate: 25V/us; V Span Max: 30V; V Span Min: 9V; DatasheetVersion: Rev. B; PackageReference: RM-8; PackageDescription: 8-Pin Mini Small Outline Package, Body 3 x 3 mm, Pitch 0.65 mm; Supplier 1: Digi-Key; Supplier Part Number 1: ADA4610-2ARMZ-RL-ND; Supplier 2: Newark; Supplier Part Number 2: 86T6047; Packing: Reel; Small Signal Bandwidth: 10.6MHz; Mounting Technology: Surface Mount; Code_JEDEC: MO-187-AA; ComponentLink1Description: Manufacturer URL; ComponentLink1URL: http://www.analog.com/en/index.html; ComponentLink2Description: Datasheet; ComponentLink2URL: http://www.analog.com/static/imported-files/data_sheets/ADA4610-2.pdf; ComponentLink3Description: Package Specification; ComponentLink3URL: http://www.analog.com/static/imported-files/packages/PKG_PDF/MSOP%28RM%29/RM_8.pdf
footprint ADI-RM-8_N (SOP, 8-Leads, Body 3x3mm, Pitch 0.65mm, IPC Medium Density)
footprint ADI-RM-8_L (SOP, 8-Leads, Body 3x3mm, Pitch 0.65mm, IPC High Density)
footprint ADI-RM-8_M (SOP, 8-Leads, Body 3x3mm, Pitch 0.65mm, IPC Low Density)
pins on every part: 4 -V (power), 8 +V (power)
part A pins: 1 OUT A (out), 2 -IN A (in), 3 +IN A (in)
part B pins: 5 +IN B (in), 6 -IN B (in), 7 OUT B (out)

## ADA4610-2ARZ
designator U?
Double Channel Low Offset Voltage Drift Operational Amplifier, 10.6 MHz BW, 25 V/us SR, Industrial, 8-pin SOIC (R-8), Tube; Generic Part Number: ADA4610-2; Manufacturer: Analog Devices; PartNumber: ADA4610-2ARZ; Amplifiers Per Package: 2; Input Bias Current: 5pA; Input Offset Voltage: 200uV; Iq/Amp: 1.6mA; Slew Rate: 25V/us; V Span Max: 30V; V Span Min: 9V; DatasheetVersion: Rev. B; PackageVersion: 060506-A; PackageReference: R-8; PackageDescription: 8-Pin Standard Small Outline Package, Body 3.9 x 4.9 mm, Pitch 1.27 mm; Supplier 1: Digi-Key; Supplier Part Number 1: ADA4610-2ARZ-ND; Supplier 2: Farnell; Supplier Part Number 2: 2081046; Supplier 3: Farnell; Supplier Part Number 3: 2127819; Supplier 4: Newark; Supplier Part Number 4: 86T6049; Packing: Tube; Small Signal Bandwidth: 10.6MHz; Mounting Technology: Surface Mount; Code_JEDEC: MS-012-AA; ComponentLink1Description: Manufacturer URL; ComponentLink1URL: http://www.analog.com/en/index.html; ComponentLink2Description: Datasheet; ComponentLink2URL: http://www.analog.com/static/imported-files/data_sheets/ADA4610-2.pdf; ComponentLink3Description: Package Specification; ComponentLink3URL: http://www.analog.com/static/imported-files/packages/PKG_PDF/SOIC_Narrow%20(R)/R_8.pdf
footprint ADI-R-8_N (SOIC, 8-Leads, Body 4.9x3.9mm, Pitch 1.27mm, IPC Medium Density)
footprint ADI-R-8_L (SOIC, 8-Leads, Body 4.9x3.9mm, Pitch 1.27mm, IPC High Density)
footprint ADI-R-8_M (SOIC, 8-Leads, Body 4.9x3.9mm, Pitch 1.27mm, IPC Low Density)
pins on every part: 4 -V (power), 8 +V (power)
part A pins: 1 OUT A (out), 2 -IN A (in), 3 +IN A (in)
part B pins: 5 +IN B (in), 6 -IN B (in), 7 OUT B (out)

## ADA4610-2ARZ-R7
designator U?
Double Channel Low Offset Voltage Drift Operational Amplifier, 10.6 MHz BW, 25 V/us SR, Industrial, 8-pin SOIC (R-8), Reel; Generic Part Number: ADA4610-2; Manufacturer: Analog Devices; PartNumber: ADA4610-2ARZ-R7; Amplifiers Per Package: 2; Input Bias Current: 5pA; Input Offset Voltage: 200uV; Iq/Amp: 1.6mA; Slew Rate: 25V/us; V Span Max: 30V; V Span Min: 9V; DatasheetVersion: Rev. B; PackageVersion: 060506-A; PackageReference: R-8; PackageDescription: 8-Pin Standard Small Outline Package, Body 3.9 x 4.9 mm, Pitch 1.27 mm; Supplier 1: Digi-Key; Supplier Part Number 1: ADA4610-2ARZ-R7-ND; Supplier 2: Newark; Supplier Part Number 2: 86T6051; Packing: Reel; Small Signal Bandwidth: 10.6MHz; Mounting Technology: Surface Mount; Code_JEDEC: MS-012-AA; ComponentLink1Description: Manufacturer URL; ComponentLink1URL: http://www.analog.com/en/index.html; ComponentLink2Description: Datasheet; ComponentLink2URL: http://www.analog.com/static/imported-files/data_sheets/ADA4610-2.pdf; ComponentLink3Description: Package Specification; ComponentLink3URL: http://www.analog.com/static/imported-files/packages/PKG_PDF/SOIC_Narrow%20(R)/R_8.pdf
footprint ADI-R-8_N (SOIC, 8-Leads, Body 4.9x3.9mm, Pitch 1.27mm, IPC Medium Density)
footprint ADI-R-8_L (SOIC, 8-Leads, Body 4.9x3.9mm, Pitch 1.27mm, IPC High Density)
footprint ADI-R-8_M (SOIC, 8-Leads, Body 4.9x3.9mm, Pitch 1.27mm, IPC Low Density)
pins on every part: 4 -V (power), 8 +V (power)
part A pins: 1 OUT A (out), 2 -IN A (in), 3 +IN A (in)
part B pins: 5 +IN B (in), 6 -IN B (in), 7 OUT B (out)

## ADA4610-2ARZ-RL
designator U?
Double Channel Low Offset Voltage Drift Operational Amplifier, 10.6 MHz BW, 25 V/us SR, Industrial, 8-pin SOIC (R-8), Reel; Generic Part Number: ADA4610-2; Manufacturer: Analog Devices; PartNumber: ADA4610-2ARZ-RL; Amplifiers Per Package: 2; Input Bias Current: 5pA; Input Offset Voltage: 200uV; Iq/Amp: 1.6mA; Slew Rate: 25V/us; V Span Max: 30V; V Span Min: 9V; DatasheetVersion: Rev. B; PackageVersion: 060506-A; PackageReference: R-8; PackageDescription: 8-Pin Standard Small Outline Package, Body 3.9 x 4.9 mm, Pitch 1.27 mm; Supplier 1: Digi-Key; Supplier Part Number 1: ADA4610-2ARZ-RL-ND; Supplier 2: Newark; Supplier Part Number 2: 86T6050; Packing: Reel; Small Signal Bandwidth: 10.6MHz; Mounting Technology: Surface Mount; Code_JEDEC: MS-012-AA; ComponentLink1Description: Manufacturer URL; ComponentLink1URL: http://www.analog.com/en/index.html; ComponentLink2Description: Datasheet; ComponentLink2URL: http://www.analog.com/static/imported-files/data_sheets/ADA4610-2.pdf; ComponentLink3Description: Package Specification; ComponentLink3URL: http://www.analog.com/static/imported-files/packages/PKG_PDF/SOIC_Narrow%20(R)/R_8.pdf
footprint ADI-R-8_N (SOIC, 8-Leads, Body 4.9x3.9mm, Pitch 1.27mm, IPC Medium Density)
footprint ADI-R-8_L (SOIC, 8-Leads, Body 4.9x3.9mm, Pitch 1.27mm, IPC High Density)
footprint ADI-R-8_M (SOIC, 8-Leads, Body 4.9x3.9mm, Pitch 1.27mm, IPC Low Density)
pins on every part: 4 -V (power), 8 +V (power)
part A pins: 1 OUT A (out), 2 -IN A (in), 3 +IN A (in)
part B pins: 5 +IN B (in), 6 -IN B (in), 7 OUT B (out)

## ADA4610-2BRZ
designator U?
Double Channel Low Offset Voltage Drift Operational Amplifier, 10.6 MHz BW, 25 V/us SR, Industrial, 8-pin SOIC (R-8), Tube; Generic Part Number: ADA4610-2; Manufacturer: Analog Devices; PartNumber: ADA4610-2BRZ; Amplifiers Per Package: 2; Input Bias Current: 5pA; Input Offset Voltage: 200uV; Iq/Amp: 1.6mA; Slew Rate: 25V/us; V Span Max: 30V; V Span Min: 9V; DatasheetVersion: Rev. B; PackageVersion: 060506-A; PackageReference: R-8; PackageDescription: 8-Pin Standard Small Outline Package, Body 3.9 x 4.9 mm, Pitch 1.27 mm; Supplier 1: Digi-Key; Supplier Part Number 1: ADA4610-2BRZ-ND; Supplier 2: Farnell; Supplier Part Number 2: 2081047; Supplier 3: Newark; Supplier Part Number 3: 86T6052; Packing: Tube; Small Signal Bandwidth: 10.6MHz; Mounting Technology: Surface Mount; Code_JEDEC: MS-012-AA; ComponentLink1Description: Manufacturer URL; ComponentLink1URL: http://www.analog.com/en/index.html; ComponentLink2Description: Datasheet; ComponentLink2URL: http://www.analog.com/static/imported-files/data_sheets/ADA4610-2.pdf; ComponentLink3Description: Package Specification; ComponentLink3URL: http://www.analog.com/static/imported-files/packages/PKG_PDF/SOIC_Narrow%20(R)/R_8.pdf
footprint ADI-R-8_N (SOIC, 8-Leads, Body 4.9x3.9mm, Pitch 1.27mm, IPC Medium Density)
footprint ADI-R-8_L (SOIC, 8-Leads, Body 4.9x3.9mm, Pitch 1.27mm, IPC High Density)
footprint ADI-R-8_M (SOIC, 8-Leads, Body 4.9x3.9mm, Pitch 1.27mm, IPC Low Density)
pins on every part: 4 -V (power), 8 +V (power)
part A pins: 1 OUT A (out), 2 -IN A (in), 3 +IN A (in)
part B pins: 5 +IN B (in), 6 -IN B (in), 7 OUT B (out)

## ADA4610-2BRZ-R7
designator U?
Double Channel Low Offset Voltage Drift Operational Amplifier, 10.6 MHz BW, 25 V/us SR, Industrial, 8-pin SOIC (R-8), Reel; Generic Part Number: ADA4610-2; Manufacturer: Analog Devices; PartNumber: ADA4610-2BRZ-R7; Amplifiers Per Package: 2; Input Bias Current: 5pA; Input Offset Voltage: 200uV; Iq/Amp: 1.6mA; Slew Rate: 25V/us; V Span Max: 30V; V Span Min: 9V; DatasheetVersion: Rev. B; PackageVersion: 060506-A; PackageReference: R-8; PackageDescription: 8-Pin Standard Small Outline Package, Body 3.9 x 4.9 mm, Pitch 1.27 mm; Supplier 1: Digi-Key; Supplier Part Number 1: ADA4610-2BRZ-R7-ND; Supplier 2: Newark; Supplier Part Number 2: 86T6054; Packing: Reel; Small Signal Bandwidth: 10.6MHz; Mounting Technology: Surface Mount; Code_JEDEC: MS-012-AA; ComponentLink1Description: Manufacturer URL; ComponentLink1URL: http://www.analog.com/en/index.html; ComponentLink2Description: Datasheet; ComponentLink2URL: http://www.analog.com/static/imported-files/data_sheets/ADA4610-2.pdf; ComponentLink3Description: Package Specification; ComponentLink3URL: http://www.analog.com/static/imported-files/packages/PKG_PDF/SOIC_Narrow%20(R)/R_8.pdf
footprint ADI-R-8_N (SOIC, 8-Leads, Body 4.9x3.9mm, Pitch 1.27mm, IPC Medium Density)
footprint ADI-R-8_L (SOIC, 8-Leads, Body 4.9x3.9mm, Pitch 1.27mm, IPC High Density)
footprint ADI-R-8_M (SOIC, 8-Leads, Body 4.9x3.9mm, Pitch 1.27mm, IPC Low Density)
pins on every part: 4 -V (power), 8 +V (power)
part A pins: 1 OUT A (out), 2 -IN A (in), 3 +IN A (in)
part B pins: 5 +IN B (in), 6 -IN B (in), 7 OUT B (out)

## ADA4610-2BRZ-RL
designator U?
Double Channel Low Offset Voltage Drift Operational Amplifier, 10.6 MHz BW, 25 V/us SR, Industrial, 8-pin SOIC (R-8), Reel; Generic Part Number: ADA4610-2; Manufacturer: Analog Devices; PartNumber: ADA4610-2BRZ-RL; Amplifiers Per Package: 2; Input Bias Current: 5pA; Input Offset Voltage: 200uV; Iq/Amp: 1.6mA; Slew Rate: 25V/us; V Span Max: 30V; V Span Min: 9V; DatasheetVersion: Rev. B; PackageVersion: 060506-A; PackageReference: R-8; PackageDescription: 8-Pin Standard Small Outline Package, Body 3.9 x 4.9 mm, Pitch 1.27 mm; Supplier 1: Digi-Key; Supplier Part Number 1: ADA4610-2BRZ-RL-ND; Supplier 2: Newark; Supplier Part Number 2: 86T6053; Packing: Reel; Small Signal Bandwidth: 10.6MHz; Mounting Technology: Surface Mount; Code_JEDEC: MS-012-AA; ComponentLink1Description: Manufacturer URL; ComponentLink1URL: http://www.analog.com/en/index.html; ComponentLink2Description: Datasheet; ComponentLink2URL: http://www.analog.com/static/imported-files/data_sheets/ADA4610-2.pdf; ComponentLink3Description: Package Specification; ComponentLink3URL: http://www.analog.com/static/imported-files/packages/PKG_PDF/SOIC_Narrow%20(R)/R_8.pdf
footprint ADI-R-8_N (SOIC, 8-Leads, Body 4.9x3.9mm, Pitch 1.27mm, IPC Medium Density)
footprint ADI-R-8_L (SOIC, 8-Leads, Body 4.9x3.9mm, Pitch 1.27mm, IPC High Density)
footprint ADI-R-8_M (SOIC, 8-Leads, Body 4.9x3.9mm, Pitch 1.27mm, IPC Low Density)
pins on every part: 4 -V (power), 8 +V (power)
part A pins: 1 OUT A (out), 2 -IN A (in), 3 +IN A (in)
part B pins: 5 +IN B (in), 6 -IN B (in), 7 OUT B (out)

## ADA4627-1ACPZ-R2
designator U?
Single Channel Low Offset Voltage Operational Amplifier, 19 MHz BW, 40 V/us SR, Industrial, 8-pin QFN (CP-8-2), Reel; Generic Part Number: ADA4627-1; Manufacturer: Analog Devices; PartNumber: ADA4627-1ACPZ-R2; Amplifiers Per Package: 1; Input Bias Current: 1pA; Input Offset Voltage: 70uV; Iq/Amp: 7mA; Slew Rate: 40V/us; Small Signal Bandwidth: 19MHz; V Span Max: 30V; V Span Min: 10V; DatasheetVersion: Rev. D; PackageVersion: 061507-B; PackageReference: CP-8-2; PackageDescription: 8-Pin Lead Frame Chip Scale Package, Body 3 x 3 mm, Pitch 0.5 mm; Supplier 1: Digi-Key; Supplier Part Number 1: ADA4627-1ACPZ-R2TR-ND; Supplier 2: Digi-Key; Supplier Part Number 2: ADA4627-1ACPZ-R2CT-ND; Supplier 3: Digi-Key; Supplier Part Number 3: ADA4627-1ACPZ-R2DKR-ND; Supplier 4: Farnell; Supplier Part Number 4: 1827379; Supplier 5: Newark; Supplier Part Number 5: 26R2396; Mounting Technology: Surface Mount; ComponentLink1Description: Manufacturer URL; ComponentLink1URL: http://www.analog.com/en/index.html; ComponentLink2Description: Datasheet; ComponentLink2URL: http://www.analog.com/static/imported-files/data_sheets/ADA4627-1_4637-1.pdf; ComponentLink3Description: Package Specification; ComponentLink3URL: http://www.analog.com/static/imported-files/packages/56953322593982CP_8_2.pdf; ComponentLink4Description: Reference Circuit; ComponentLink4URL: http://www.analog.com/en/all-operational-amplifiers-op-amps/operational-amplifiers-op-amps/ada4627-1/products/product.html#product-recommendations
footprint ADI-CP-8-2_N (QFN, 8-Leads, Body 3x3mm, Pitch 0.5mm, Thermal Pad 1.45X1.74mm, IPC Medium Density)
footprint ADI-CP-8-2_L (QFN, 8-Leads, Body 3x3mm, Pitch 0.5mm, Thermal Pad 1.45X1.74mm, IPC High Density)
footprint ADI-CP-8-2_M (QFN, 8-Leads, Body 3x3mm, Pitch 0.5mm, Thermal Pad 1.45X1.74mm, IPC Low Density)
part A pins: 2 -IN (in), 3 +IN (in), 4 -V (power), 6 OUT (out), 7 +V (power), 9 EP (power)
part B pins: 1 NC, 5 NC, 8 NC

## ADA4627-1ACPZ-R7
designator U?
Single Channel Low Offset Voltage Operational Amplifier, 19 MHz BW, 40 V/us SR, Industrial, 8-pin QFN (CP-8-2), Reel; Generic Part Number: ADA4627-1; Manufacturer: Analog Devices; PartNumber: ADA4627-1ACPZ-R7; Amplifiers Per Package: 1; Input Bias Current: 1pA; Input Offset Voltage: 70uV; Iq/Amp: 7mA; Slew Rate: 40V/us; Small Signal Bandwidth: 19MHz; V Span Max: 30V; V Span Min: 10V; DatasheetVersion: Rev. D; PackageVersion: 061507-B; PackageReference: CP-8-2; PackageDescription: 8-Pin Lead Frame Chip Scale Package, Body 3 x 3 mm, Pitch 0.5 mm; Supplier 1: Digi-Key; Supplier Part Number 1: ADA4627-1ACPZ-R7-ND; Supplier 2: Newark; Supplier Part Number 2: 26R2397; Mounting Technology: Surface Mount; ComponentLink1Description: Manufacturer URL; ComponentLink1URL: http://www.analog.com/en/index.html; ComponentLink2Description: Datasheet; ComponentLink2URL: http://www.analog.com/static/imported-files/data_sheets/ADA4627-1_4637-1.pdf; ComponentLink3Description: Package Specification; ComponentLink3URL: http://www.analog.com/static/imported-files/packages/56953322593982CP_8_2.pdf; ComponentLink4Description: Reference Circuit; ComponentLink4URL: http://www.analog.com/en/all-operational-amplifiers-op-amps/operational-amplifiers-op-amps/ada4627-1/products/product.html#product-recommendations
footprint ADI-CP-8-2_N (QFN, 8-Leads, Body 3x3mm, Pitch 0.5mm, Thermal Pad 1.45X1.74mm, IPC Medium Density)
footprint ADI-CP-8-2_L (QFN, 8-Leads, Body 3x3mm, Pitch 0.5mm, Thermal Pad 1.45X1.74mm, IPC High Density)
footprint ADI-CP-8-2_M (QFN, 8-Leads, Body 3x3mm, Pitch 0.5mm, Thermal Pad 1.45X1.74mm, IPC Low Density)
part A pins: 2 -IN (in), 3 +IN (in), 4 -V (power), 6 OUT (out), 7 +V (power), 9 EP (power)
part B pins: 1 NC, 5 NC, 8 NC